# Altium footprint library G6K-2P.PcbLib: 1 footprints
Each footprint in its own frame and in the unit in brackets; x right, y up, seen from the top. Pads: shape width x height; smd on the part's side, far side on the other; paste and mask are expansions set on the pad; w line width, h text height; cw(c..) or ccw(c..) is an arc to the next point about the centre after c.
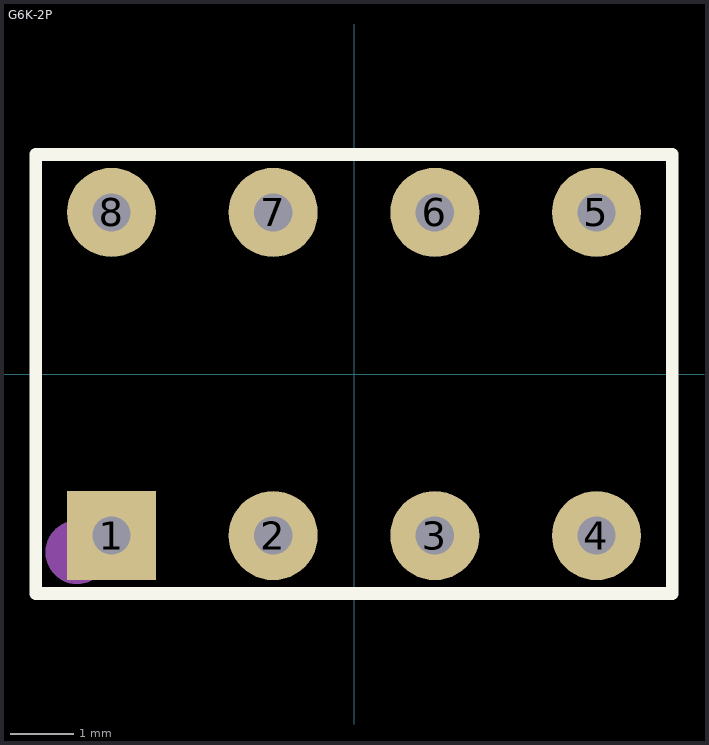
[diagram p0: the footprint, top view; thin cyan lines are the x and y axes]

## G6K-2P [mm]
pads (8):
  rect 1.4x1.4 hole 0.6: 1(-3.81,-2.54)
  round 1.4 hole 0.6: 2(-1.27,-2.54) 3(1.27,-2.54) 4(3.81,-2.54) 5(3.81,2.54) 6(1.27,2.54) 7(-1.27,2.54) 8(-3.81,2.54)
Top Overlay:
  lines w0.2: -5,-3.45 5,-3.45 5,3.45 -5,3.45 -5,-3.45
Top Assembly:
  circle w0.5: c-4.35,-2.8 r0.25
  lines w0.1: -5,-3.45 -5,3.45 5,3.45 5,-3.45 -5,-3.45
  text "'.Designator'" at -0.45,-0.325 h0.7
3D body "g6k-2p-y_5dc.stp": height 5, standoff -3.5, extent -5,-3.25 5,3.25
3D body: height 1.4, standoff -1.4, extent -1.9,1.7 -1.9,1.7